# Altium schematic symbol library PCI Express_16765X11115_36PIN.SCHLIB: 1 symbol
Pins are listed as number, name and electrical type; pins without a type are passive.

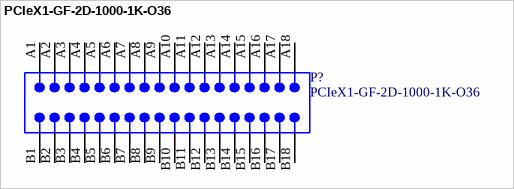
[diagram p0: symbol PCIeX1-GF-2D-1000-1K-O36]

## PCIeX1-GF-2D-1000-1K-O36
designator P?  (no BOM)
Golden finger, PCIeX1, Dual, Opposite, Pitch 1mm, 36-Position; Mating Connector: Molex-87715-9006; Package Reference: PCIeX1-GF-2D-1000-1K-O36; ClassName: Edge Connector; Publisher: Altium; Datasheet Version: rev2.0, Apr-2007
footprint PCIeX1-GF-2D-1000-1K-O36 (Golden finger, PCIeX1, Dual, Opposite, Pitch 1mm, 36-Position)
pins: A1, A2, A3, A4, A5, A6, A7, A8, A9, A10, A11, A12, A13, A14, A15, A16, A17, A18, B1, B2, B3, B4, B5, B6, B7, B8, B9, B10, B11, B12, B13, B14, B15, B16, B17, B18